# Altium footprint library LDO_Microchip_MIC69502WR-TR_ADJ.PcbLib: 1 footprints
Each footprint in its own frame and in the unit in brackets; x right, y up, seen from the top. Pads: shape width x height; smd on the part's side, far side on the other; paste and mask are expansions set on the pad; w line width, h text height; cw(c..) or ccw(c..) is an arc to the next point about the centre after c.
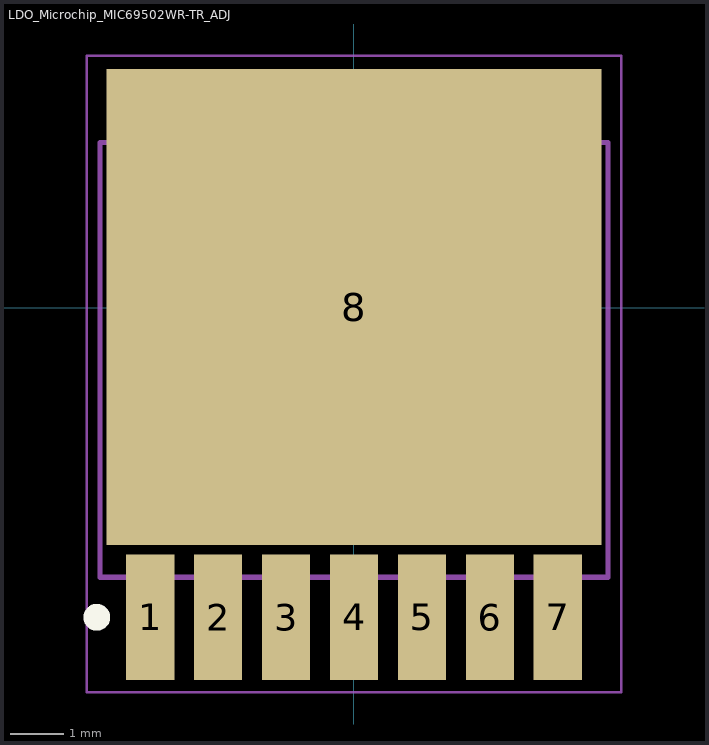
[diagram p0: the footprint, top view; thin cyan lines are the x and y axes]

## LDO_Microchip_MIC69502WR-TR_ADJ [mm]
height 2.03
pads (8):
  rect 0.9x2.35 smd: 1(-3.808,-5.793) 2(-2.538,-5.793) 3(-1.268,-5.793) 4(0.002,-5.793) 5(1.272,-5.793) 6(2.542,-5.793) 7(3.812,-5.793)
  rect 9.25x8.9 smd paste-10: 8(0.002,0.007)
Top Overlay:
  circle w0.25: c-4.808,-5.793 r0.125
Top Paste:
  rectangle: -4.281,1.613 -1.651,4.243
  rectangle: -1.35,1.613 1.28,4.243
  rectangle: 1.581,1.613 4.211,4.243
  rectangle: -4.281,-1.318 -1.651,1.312
  rectangle: -4.281,-4.249 -1.651,-1.619
  rectangle: -1.35,-4.249 1.28,-1.619
  rectangle: -1.35,-1.318 1.28,1.312
  rectangle: 1.581,-4.249 4.211,-1.619
  rectangle: 1.581,-1.318 4.211,1.312
Mechanical 13:
  lines w0.1: -4.748,-5.043 -4.748,3.087 4.752,3.087 4.752,-5.043 -4.748,-5.043
Mechanical 15:
  lines w0.05: -4.998,-7.193 -4.998,4.707 5.002,4.707 5.002,-7.193 -4.998,-7.193
  lines w0.1: -0.498,-1.243 0.502,-1.243 ; 0.002,-1.743 0.002,-0.743
3D body "DPAK127P1054X203-8N.step": height 2.28, standoff 0, extent -4.748,-6.078 4.752,4.462